# Altium footprint library Drawings.PcbLib: 8 footprints
Each footprint in its own frame and in the unit in brackets; x right, y up, seen from the top. Pads: shape width x height; smd on the part's side, far side on the other; paste and mask are expansions set on the pad; w line width, h text height; cw(c..) or ccw(c..) is an arc to the next point about the centre after c.
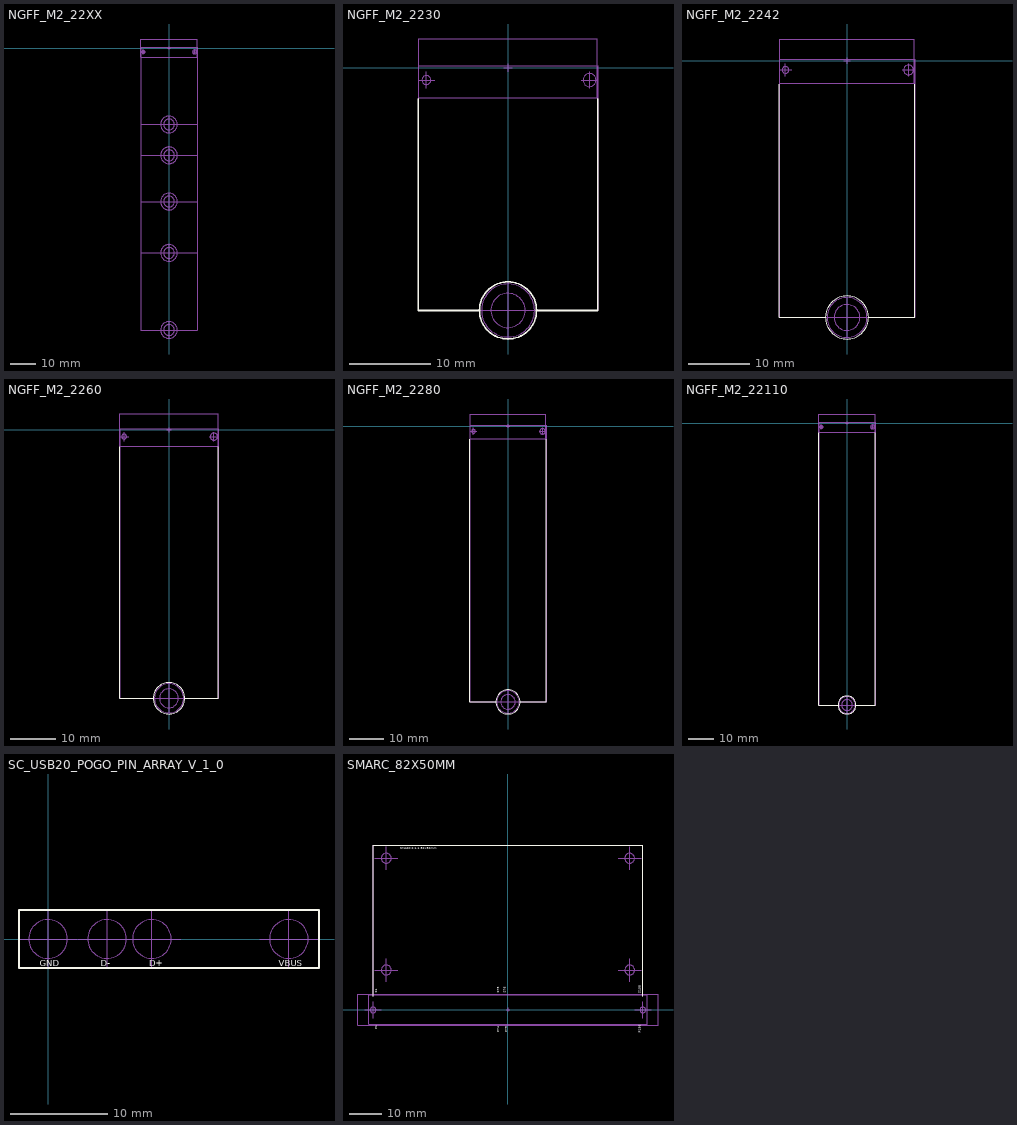
[diagram p0: the footprints below, top view; thin cyan lines are the x and y axes]

## NGFF_M2_22XX [mm]
Mechanical 127:
  circle w0.1: c0,-79.75 r2.1
  circle w0.1: c0,-79.75 r3.25
  circle w0.1: c0,-59.75 r2.1
  circle w0.1: c0,-59.75 r3.25
  circle w0.1: c0,-29.75 r2.1
  circle w0.1: c0,-29.75 r3.25
  circle w0.05: c10,-1.5 r0.8
  circle w0.05: c-10,-1.5 r0.55
  circle w0.1: c0,-41.75 r3.25
  circle w0.1: c0,-41.75 r2.1
  circle w0.1: c0,-109.75 r3.25
  circle w0.1: c0,-109.75 r2.1
  lines w0.05: -11,-109.75 11,-109.75 ; -11,-79.75 11,-79.75 ; -11,-59.75 11,-59.75 ; -11,-41.75 11,-41.75 ; -11,-29.75 11,-29.75 ; -11,-1.5 -9,-1.5 ; -11,0.25 11,0.25 ; -10,-2.5 -10,-0.5 ; -0.5,0 0.5,0 ; 0,-0.5 0,0.5 ; 9,-1.5 11,-1.5 ; 10,-2.5 10,-0.5 ; -10.95,-3.67 -10.95,3.53 10.95,3.53 10.95,-3.67 -10.95,-3.67
  lines w0.051: -11,-109.75 -11,0.25 ; 11,-109.75 11,0.25
  lines w0.1: -3.5,-109.75 3.5,-109.75 ; -3.5,-79.75 3.5,-79.75 ; -3.5,-59.75 3.5,-59.75 ; -3.5,-41.75 3.5,-41.75 ; -3.5,-29.75 3.5,-29.75 ; 0,-113.25 0,-106.25 ; 0,-83.25 0,-76.25 ; 0,-63.25 0,-56.25 ; 0,-45.25 0,-38.25 ; 0,-33.25 0,-26.25

## NGFF_M2_2230 [mm]
Top Overlay:
  circle w0.2: c0,-29.75 r3.5
  lines w0.2: -11,-3.8 -11,-29.75 -3.5,-29.75 ; 3.5,-29.75 11,-29.75 11,-3.8
Mechanical 127:
  circle w0.1: c0,-29.75 r2.1
  circle w0.1: c0,-29.75 r3.25
  circle w0.05: c10,-1.5 r0.8
  circle w0.05: c-10,-1.5 r0.55
  lines w0.05: -11,-29.75 11,-29.75 ; -11,-1.5 -9,-1.5 ; -11,0.25 11,0.25 ; -10,-2.5 -10,-0.5 ; -0.5,0 0.5,0 ; 0,-0.5 0,0.5 ; 9,-1.5 11,-1.5 ; 10,-2.5 10,-0.5 ; -10.95,-3.67 -10.95,3.53 10.95,3.53 10.95,-3.67 -10.95,-3.67
  lines w0.051: -11,-29.75 -11,0.25 ; 11,-29.75 11,0.25
  lines w0.1: -3.5,-29.75 3.5,-29.75 ; 0,-33.25 0,-26.25

## NGFF_M2_2242 [mm]
Top Overlay:
  circle w0.2: c0,-41.75 r3.5
  lines w0.2: -11,-3.8 -11,-41.75 -3.5,-41.75 ; 3.5,-41.75 11,-41.75 11,-3.8
Mechanical 127:
  circle w0.05: c10,-1.5 r0.8
  circle w0.05: c-10,-1.5 r0.55
  circle w0.1: c0,-41.75 r3.25
  circle w0.1: c0,-41.75 r2.1
  lines w0.05: -11,-41.75 11,-41.75 ; -11,-1.5 -9,-1.5 ; -11,0.25 11,0.25 ; -10,-2.5 -10,-0.5 ; -0.5,0 0.5,0 ; 0,-0.5 0,0.5 ; 9,-1.5 11,-1.5 ; 10,-2.5 10,-0.5 ; -10.95,-3.67 -10.95,3.53 10.95,3.53 10.95,-3.67 -10.95,-3.67
  lines w0.051: -11,-41.75 -11,0.25 ; 11,-41.75 11,0.25
  lines w0.1: -3.5,-41.75 3.5,-41.75 ; 0,-45.25 0,-38.25

## NGFF_M2_2260 [mm]
Top Overlay:
  circle w0.2: c0,-59.75 r3.5
  lines w0.2: -11,-3.8 -11,-59.75 -3.5,-59.75 ; 3.5,-59.75 11,-59.75 11,-3.8
Mechanical 127:
  circle w0.05: c-10,-1.5 r0.55
  circle w0.05: c10,-1.5 r0.8
  circle w0.1: c0,-59.75 r3.25
  circle w0.1: c0,-59.75 r2.1
  lines w0.05: -11,-59.75 11,-59.75 ; -11,-1.5 -9,-1.5 ; -11,0.25 11,0.25 ; -10,-2.5 -10,-0.5 ; -0.5,0 0.5,0 ; 0,-0.5 0,0.5 ; 9,-1.5 11,-1.5 ; 10,-2.5 10,-0.5 ; -10.95,-3.67 10.95,-3.67 10.95,3.53 -10.95,3.53 -10.95,-3.67
  lines w0.051: -11,-59.75 -11,0.25 ; 11,-59.75 11,0.25
  lines w0.1: -3.5,-59.75 3.5,-59.75 ; 0,-63.25 0,-56.25

## NGFF_M2_2280 [mm]
Top Overlay:
  circle w0.2: c0,-79.75 r3.5
  lines w0.2: -11,-3.8 -11,-79.75 -3.5,-79.75 ; 3.5,-79.75 11,-79.75 11,-3.8
Mechanical 127:
  circle w0.1: c0,-79.75 r2.1
  circle w0.1: c0,-79.75 r3.25
  circle w0.05: c10,-1.5 r0.8
  circle w0.05: c-10,-1.5 r0.55
  lines w0.05: -11,-79.75 11,-79.75 ; -11,-1.5 -9,-1.5 ; -11,0.25 11,0.25 ; -10,-2.5 -10,-0.5 ; -0.5,0 0.5,0 ; 0,-0.5 0,0.5 ; 9,-1.5 11,-1.5 ; 10,-2.5 10,-0.5 ; -10.95,-3.67 -10.95,3.53 10.95,3.53 10.95,-3.67 -10.95,-3.67
  lines w0.051: -11,-79.75 -11,0.25 ; 11,-79.75 11,0.25
  lines w0.1: -3.5,-79.75 3.5,-79.75 ; 0,-83.25 0,-76.25

## NGFF_M2_22110 [mm]
Top Overlay:
  circle w0.2: c0,-109.75 r3.5
  lines w0.2: -11,-3.8 -11,-109.75 -3.5,-109.75 ; 3.5,-109.75 11,-109.75 11,-3.8
Mechanical 127:
  circle w0.1: c0,-109.75 r2.1
  circle w0.1: c0,-109.75 r3.25
  circle w0.05: c-10,-1.5 r0.55
  circle w0.05: c10,-1.5 r0.8
  lines w0.05: -11,-109.75 11,-109.75 ; -11,-1.5 -9,-1.5 ; -11,0.25 11,0.25 ; -10,-2.5 -10,-0.5 ; -0.5,0 0.5,0 ; 0,-0.5 0,0.5 ; 9,-1.5 11,-1.5 ; 10,-2.5 10,-0.5 ; -10.95,-3.67 10.95,-3.67 10.95,3.53 -10.95,3.53 -10.95,-3.67
  lines w0.051: -11,-109.75 -11,0.25 ; 11,-109.75 11,0.25
  lines w0.1: -3.5,-109.75 3.5,-109.75 ; 0,-113.25 0,-106.25

## SC_USB20_POGO_PIN_ARRAY_V_1_0 [mm]
Top Overlay:
  lines w0.2: -3,-3 28,-3 28,3 -3,3 -3,-3
  text "GND" at -0.846,-2.817 h0.64
  text "D-" at 5.471,-2.817 h0.64
  text "D+" at 10.471,-2.817 h0.64
  text "VBUS" at 23.836,-2.817 h0.64
Mechanical 127:
  circle w0.05: c10.73,0 r2
  circle w0.05: c6.1,0 r2
  circle w0.05: c0,0 r2
  circle w0.05: c24.892,0 r2
  lines w0.05: -3,0 3,0 ; 0,-3 0,3 ; 3.1,0 9.1,0 ; 6.1,-3 6.1,3 ; 7.73,0 13.73,0 ; 10.73,-3 10.73,3 ; 21.892,0 27.892,0 ; 24.892,-3 24.892,3

## SMARC_82X50MM [mm]
height 7.8
Top Overlay:
  lines w0.2: -41,4 -41,50.005 41,50.005 41,4
  text "SMARC 2.1.1 82x50mm" at -32.713,48.683 h0.64
  text "P74" at -2.682,-6.846 h0.64
  text "S1" at -39.683,5.077 h0.64
  text "P1" at -39.682,-5.923 h0.64
  text "S75" at -2.682,5.153 h0.64
  text "S76" at -0.683,5.154 h0.64
  text "S158" at 40.317,4.889 h0.64
  text "P75" at -0.182,-6.846 h0.64
  text "P156" at 40.318,-7.111 h0.64
Mechanical 127:
  circle w0.1: c-37,12.005 r1.5
  circle w0.1: c-41,-0.125 r0.875
  circle w0.1: c41,-0.125 r0.875
  circle w0.1: c-37,46.005 r1.5
  circle w0.1: c37,46 r1.5
  circle w0.1: c37,12.005 r1.5
  lines w0.1: -43.5,-0.125 -38.5,-0.125 ; -41,-2.625 -41,2.375 ; -41,4 -41,50.005 41,50.005 41,4 ; -40.5,12.005 -33.5,12.005 ; -40.5,46.005 -33.5,46.005 ; -37,8.505 -37,15.505 ; -37,42.505 -37,49.505 ; -0.5,0 0.5,0 ; 0,-0.5 0,0.5 ; 33.5,12.005 40.5,12.005 ; 33.5,46 40.5,46 ; 37,8.505 37,15.505 ; 37,42.5 37,49.5 ; 38.5,-0.125 43.5,-0.125 ; 41,-2.625 41,2.375 ; -45.6,-4.725 -45.6,4.725 45.6,4.725 45.6,-4.725 -45.6,-4.725 ; -42.3,-4.45 42.3,-4.45 42.3,4.45 -42.3,4.45 -42.3,-4.45